# Altium schematic symbol library Inductor FNR252010S100MT.Schlib: 1 symbol
Pins are listed as number, name and electrical type; pins without a type are passive.

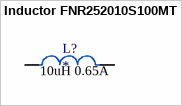
[diagram p0: symbol Inductor FNR252010S100MT]

## Inductor FNR252010S100MT
designator L?  value 10uH 0.65A
10UH ±20% 0.65A 2x2.5mm POWER INDUCTORS ROHS; LCSC Part #: C167687; JLCPCB Part Type: Extended; ComponentLink1Description: LCSC - Changjiang FNR252010S100MT; ComponentLink1URL: https://lcsc.com/product-detail/Power-Inductors_cjiang-Changjiang-Microelectronics-Tech-FNR252010S100MT_C167687.html
footprint IND72R80X110 (Inductor)
pins: 1, 2